# Altium schematic symbol library stcmcu_altium1819.SchLib: 71 symbols (part 2 of 2)
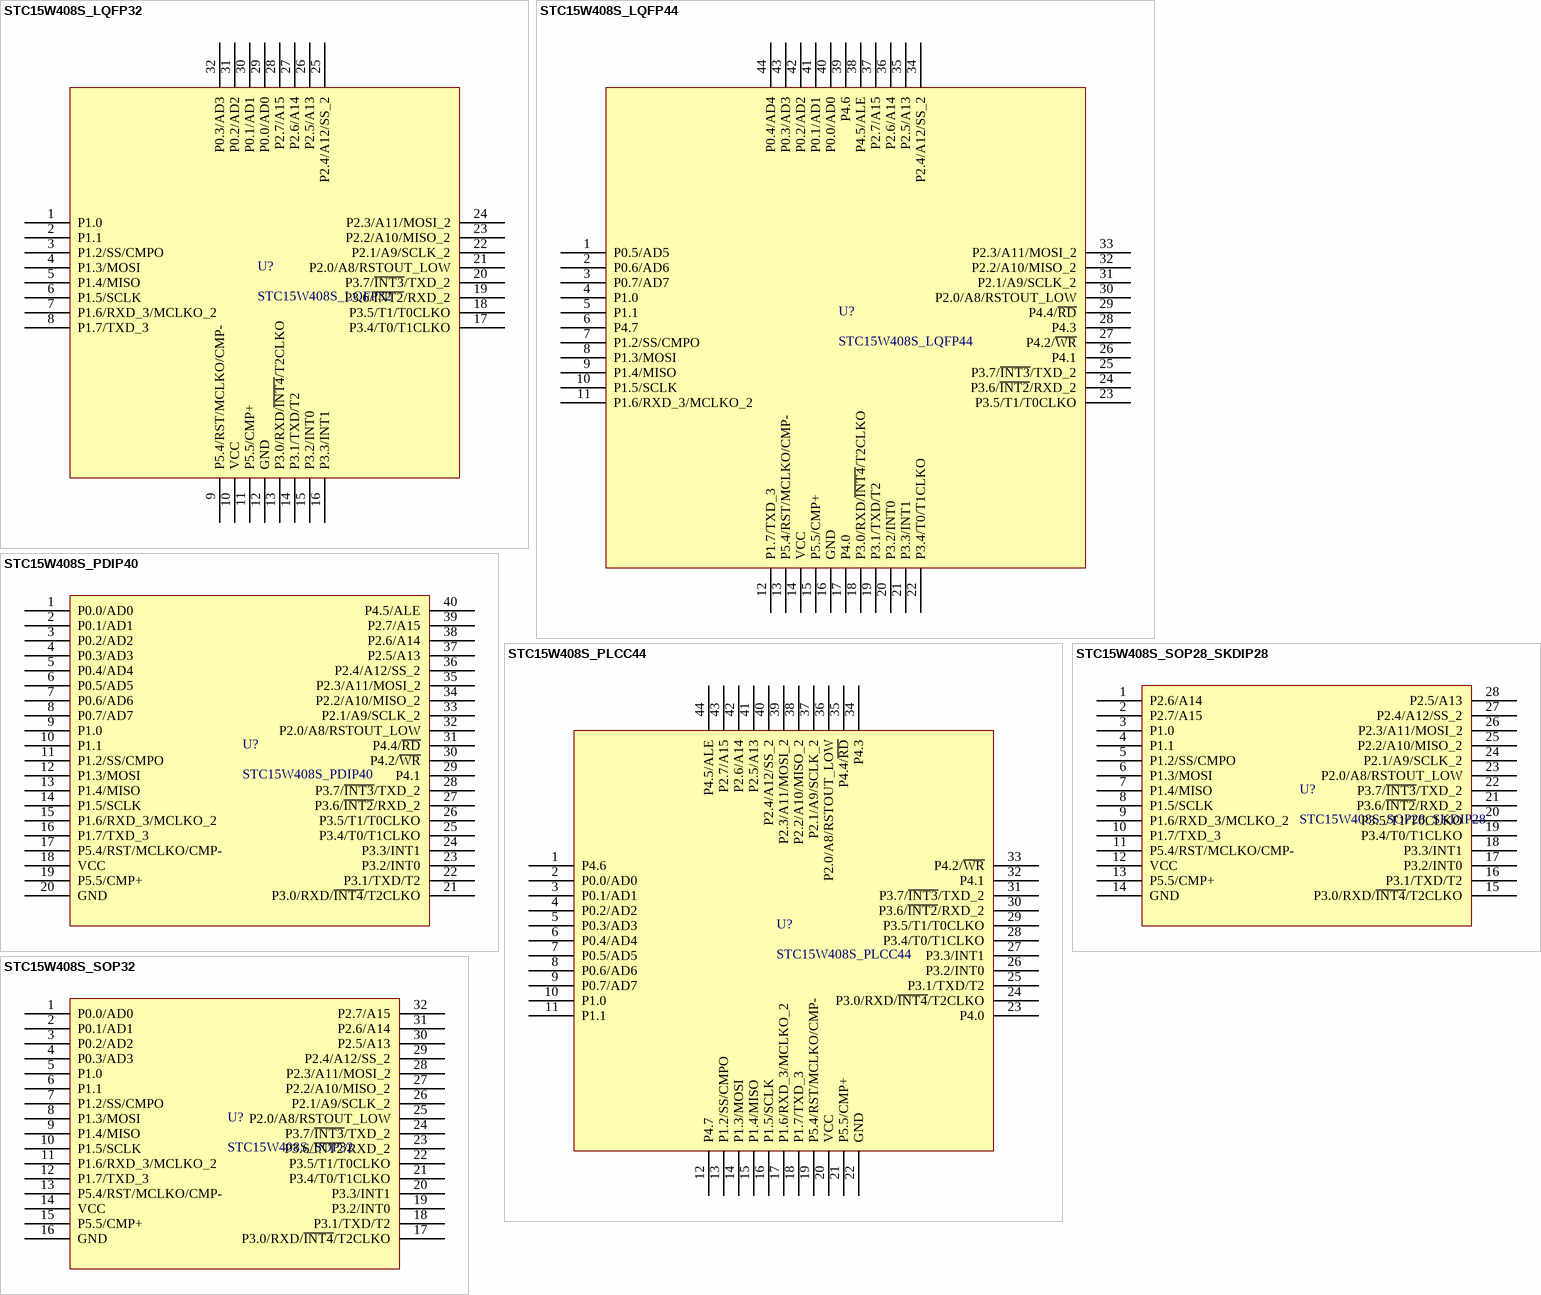
[diagram p14: symbols STC15W408S_LQFP32 to STC15W408S_SOP32]

## STC15W408S_PDIP40
designator U?
footprint DIP40
pins: 1 P0.0/AD0, 2 P0.1/AD1, 3 P0.2/AD2, 4 P0.3/AD3, 5 P0.4/AD4, 6 P0.5/AD5, 7 P0.6/AD6, 8 P0.7/AD7, 9 P1.0, 10 P1.1, 11 P1.2/SS/CMPO, 12 P1.3/MOSI, 13 P1.4/MISO, 14 P1.5/SCLK, 15 P1.6/RXD_3/MCLKO_2, 16 P1.7/TXD_3, 17 P5.4/RST/MCLKO/CMP-, 18 VCC, 19 P5.5/CMP+, 20 GND, 21 P3.0/RXD/~{INT4}/T2CLKO, 22 P3.1/TXD/T2, 23 P3.2/INT0, 24 P3.3/INT1, 25 P3.4/T0/T1CLKO, 26 P3.5/T1/T0CLKO, 27 P3.6/~{INT2}/RXD_2, 28 P3.7/~{INT3}/TXD_2, 29 P4.1, 30 P4.2/~{WR}, 31 P4.4/~{RD}, 32 P2.0/A8/RSTOUT_LOW, 33 P2.1/A9/SCLK_2, 34 P2.2/A10/MISO_2, 35 P2.3/A11/MOSI_2, 36 P2.4/A12/SS_2, 37 P2.5/A13, 38 P2.6/A14, 39 P2.7/A15, 40 P4.5/ALE

## STC15W408S_PLCC44
designator U?
footprint PLCC44
pins: 1 P4.6, 2 P0.0/AD0, 3 P0.1/AD1, 4 P0.2/AD2, 5 P0.3/AD3, 6 P0.4/AD4, 7 P0.5/AD5, 8 P0.6/AD6, 9 P0.7/AD7, 10 P1.0, 11 P1.1, 12 P4.7, 13 P1.2/SS/CMPO, 14 P1.3/MOSI, 15 P1.4/MISO, 16 P1.5/SCLK, 17 P1.6/RXD_3/MCLKO_2, 18 P1.7/TXD_3, 19 P5.4/RST/MCLKO/CMP-, 20 VCC, 21 P5.5/CMP+, 22 GND, 23 P4.0, 24 P3.0/RXD/~{INT4}/T2CLKO, 25 P3.1/TXD/T2, 26 P3.2/INT0, 27 P3.3/INT1, 28 P3.4/T0/T1CLKO, 29 P3.5/T1/T0CLKO, 30 P3.6/~{INT2}/RXD_2, 31 P3.7/~{INT3}/TXD_2, 32 P4.1, 33 P4.2/~{WR}, 34 P4.3, 35 P4.4/~{RD}, 36 P2.0/A8/RSTOUT_LOW, 37 P2.1/A9/SCLK_2, 38 P2.2/A10/MISO_2, 39 P2.3/A11/MOSI_2, 40 P2.4/A12/SS_2, 41 P2.5/A13, 42 P2.6/A14, 43 P2.7/A15, 44 P4.5/ALE

## STC15W408S_SOP28_SKDIP28
designator U?
footprint SKDIP28
footprint SOP28
footprint TSSOP28
pins: 1 P2.6/A14, 2 P2.7/A15, 3 P1.0, 4 P1.1, 5 P1.2/SS/CMPO, 6 P1.3/MOSI, 7 P1.4/MISO, 8 P1.5/SCLK, 9 P1.6/RXD_3/MCLKO_2, 10 P1.7/TXD_3, 11 P5.4/RST/MCLKO/CMP-, 12 VCC, 13 P5.5/CMP+, 14 GND, 15 P3.0/RXD/~{INT4}/T2CLKO, 16 P3.1/TXD/T2, 17 P3.2/INT0, 18 P3.3/INT1, 19 P3.4/T0/T1CLKO, 20 P3.5/T1/T0CLKO, 21 P3.6/~{INT2}/RXD_2, 22 P3.7/~{INT3}/TXD_2, 23 P2.0/A8/RSTOUT_LOW, 24 P2.1/A9/SCLK_2, 25 P2.2/A10/MISO_2, 26 P2.3/A11/MOSI_2, 27 P2.4/A12/SS_2, 28 P2.5/A13

## STC15W408S_SOP32
designator U?
footprint SOP32
pins: 1 P0.0/AD0, 2 P0.1/AD1, 3 P0.2/AD2, 4 P0.3/AD3, 5 P1.0, 6 P1.1, 7 P1.2/SS/CMPO, 8 P1.3/MOSI, 9 P1.4/MISO, 10 P1.5/SCLK, 11 P1.6/RXD_3/MCLKO_2, 12 P1.7/TXD_3, 13 P5.4/RST/MCLKO/CMP-, 14 VCC, 15 P5.5/CMP+, 16 GND, 17 P3.0/RXD/~{INT4}/T2CLKO, 18 P3.1/TXD/T2, 19 P3.2/INT0, 20 P3.3/INT1, 21 P3.4/T0/T1CLKO, 22 P3.5/T1/T0CLKO, 23 P3.6/~{INT2}/RXD_2, 24 P3.7/~{INT3}/TXD_2, 25 P2.0/A8/RSTOUT_LOW, 26 P2.1/A9/SCLK_2, 27 P2.2/A10/MISO_2, 28 P2.3/A11/MOSI_2, 29 P2.4/A12/SS_2, 30 P2.5/A13, 31 P2.6/A14, 32 P2.7/A15